# Altium footprint library Wurth Electronics Inc Top LED.PcbLib: 3 footprints
Each footprint in its own frame and in the unit in brackets; x right, y up, seen from the top. Pads: shape width x height; smd on the part's side, far side on the other; paste and mask are expansions set on the pad; w line width, h text height; cw(c..) or ccw(c..) is an arc to the next point about the centre after c.
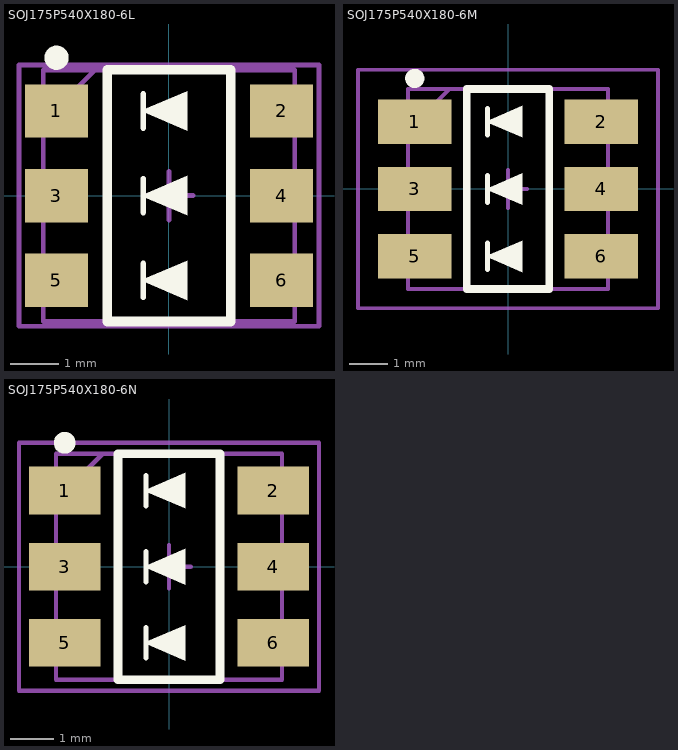
[diagram p0: the footprints below, top view; thin cyan lines are the x and y axes]

## SOJ175P540X180-6L [mm] "SOJ, 6-Leads, Body 5.2x5.6mm (max), Pitch 1.75mm, IPC High Density"
height 1.8
pads (6):
  rect 1.3x1.1 smd: 1(-2.325,1.75) 2(2.325,1.75) 3(-2.325,0) 4(2.325,0) 5(-2.325,-1.75) 6(2.325,-1.75)
Top Overlay:
  circle w0.25: c-2.325,2.85 r0.125
  region: 0.373,-1.341 -0.582,-1.75 0.373,-2.159
  region: 0.373,0.409 -0.582,0 0.373,-0.409
  region: 0.373,2.159 -0.582,1.75 0.373,1.341
  lines w0.12: -0.532,-2.1 -0.532,-1.4 ; -0.532,-0.35 -0.532,0.35 ; -0.532,1.4 -0.532,2.1
  lines w0.2: -1.275,-2.6 -1.275,2.6 1.275,2.6 1.275,-2.6 -1.275,-2.6
Mechanical 13:
  lines w0.1: -2.6,1.524 -1.524,2.6 ; -2.6,-2.6 -2.6,2.6 2.6,2.6 2.6,-2.6 -2.6,-2.6
Mechanical 15:
  lines w0.1: -0.5,0 0.5,0 ; 0,-0.5 0,0.5 ; -3.1,-2.7 -3.1,2.7 3.1,2.7 3.1,-2.7 -3.1,-2.7
3D body: height 1.8, standoff 0.4, extent -2.6,-2.6 2.6,2.6

## SOJ175P540X180-6M [mm] "SOJ, 6-Leads, Body 5.2x5.6mm (max), Pitch 1.75mm, IPC Low Density"
height 1.8
pads (6):
  rect 1.9x1.15 smd: 1(-2.425,1.75) 2(2.425,1.75) 3(-2.425,0) 4(2.425,0) 5(-2.425,-1.75) 6(2.425,-1.75)
Top Overlay:
  circle w0.25: c-2.425,2.875 r0.125
  region: 0.373,-1.341 -0.582,-1.75 0.373,-2.159
  region: 0.373,0.409 -0.582,0 0.373,-0.409
  region: 0.373,2.159 -0.582,1.75 0.373,1.341
  lines w0.12: -0.532,-2.1 -0.532,-1.4 ; -0.532,-0.35 -0.532,0.35 ; -0.532,1.4 -0.532,2.1
  lines w0.2: -1.075,-2.6 1.075,-2.6 1.075,2.6 -1.075,2.6 -1.075,-2.6
Mechanical 13:
  lines w0.1: -2.6,1.524 -1.524,2.6 ; -2.6,-2.6 2.6,-2.6 2.6,2.6 -2.6,2.6 -2.6,-2.6
Mechanical 15:
  lines w0.1: -0.5,0 0.5,0 ; 0,-0.5 0,0.5 ; -3.9,-3.1 3.9,-3.1 3.9,3.1 -3.9,3.1 -3.9,-3.1
3D body: height 1.8, standoff 0.4, extent -2.6,-2.6 2.6,2.6

## SOJ175P540X180-6N [mm] "SOJ, 6-Leads, Body 5.2x5.6mm (max), Pitch 1.75mm, IPC Medium Density"
height 1.8
pads (6):
  rect 1.65x1.1 smd: 1(-2.4,1.75) 2(2.4,1.75) 3(-2.4,0) 4(2.4,0) 5(-2.4,-1.75) 6(2.4,-1.75)
Top Overlay:
  circle w0.25: c-2.4,2.85 r0.125
  region: 0.373,-1.341 -0.582,-1.75 0.373,-2.159
  region: 0.373,0.409 -0.582,0 0.373,-0.409
  region: 0.373,2.159 -0.582,1.75 0.373,1.341
  lines w0.12: -0.532,-2.1 -0.532,-1.4 ; -0.532,-0.35 -0.532,0.35 ; -0.532,1.4 -0.532,2.1
  lines w0.2: -1.175,-2.6 1.175,-2.6 1.175,2.6 -1.175,2.6 -1.175,-2.6
Mechanical 13:
  lines w0.1: -2.6,1.524 -1.524,2.6 ; -2.6,-2.6 2.6,-2.6 2.6,2.6 -2.6,2.6 -2.6,-2.6
Mechanical 15:
  lines w0.1: -0.5,0 0.5,0 ; 0,-0.5 0,0.5 ; -3.45,-2.85 3.45,-2.85 3.45,2.85 -3.45,2.85 -3.45,-2.85
3D body: height 1.8, standoff 0.4, extent -2.6,-2.6 2.6,2.6